# EAGLE library part XC2C64A_VQ100 (library xilinx)
xc2c64a_vq100 edit this description Auto generated by make-symbol-device-package-bsdl.ulp Rev. 29 Source: xc2c64a_vq100.bsd
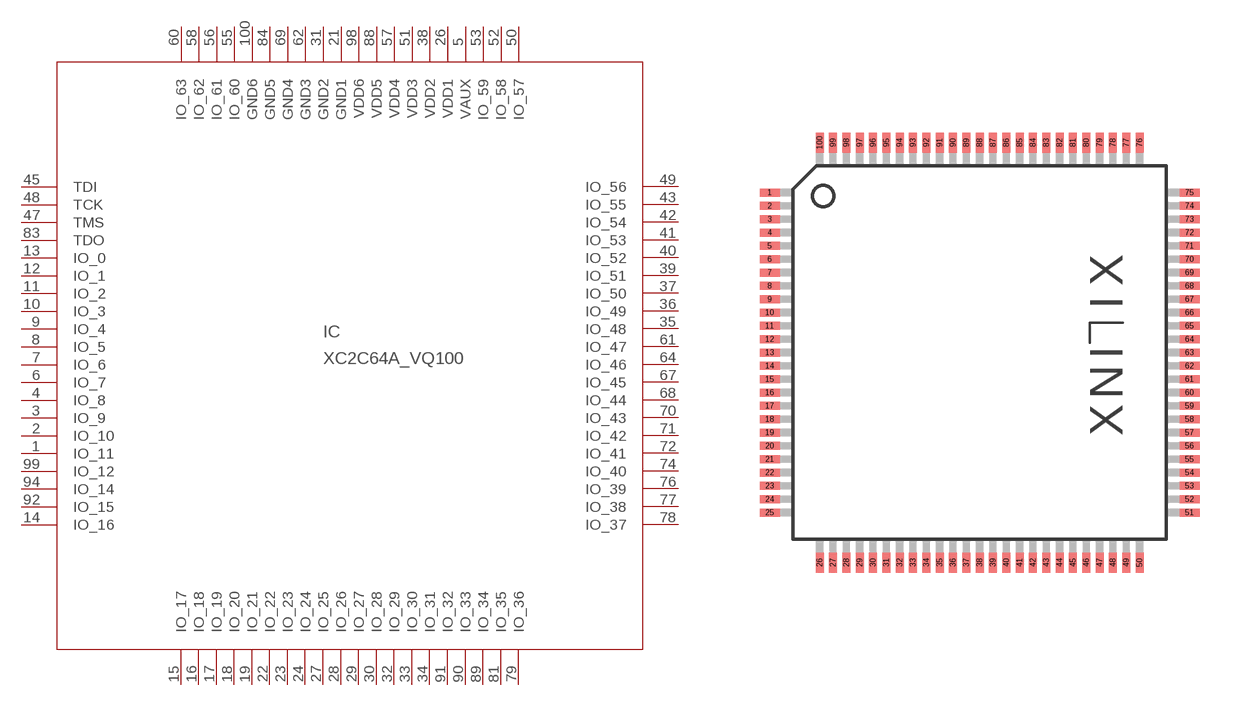
[diagram p1: symbol with the pads of VQ100; footprint VQ100]

Designator prefix IC

## XC2C64A_VQ100  [VQ100]
1  IO_11
2  IO_10
3  IO_9
4  IO_8
5  VAUX  pas
6  IO_7
7  IO_6
8  IO_5
9  IO_4
10  IO_3
11  IO_2
12  IO_1
13  IO_0
14  IO_16
15  IO_17
16  IO_18
17  IO_19
18  IO_20
19  IO_21
21  GND1  pas
22  IO_22
23  IO_23
24  IO_24
26  VDD1  pas
27  IO_25
28  IO_26
29  IO_27
30  IO_28
31  GND2  pas
32  IO_29
33  IO_30
34  IO_31
35  IO_48
36  IO_49
37  IO_50
38  VDD2  pas
39  IO_51
40  IO_52
41  IO_53
42  IO_54
43  IO_55
45  TDI  in
47  TMS  in
48  TCK  in
49  IO_56
50  IO_57
51  VDD3  pas
52  IO_58
53  IO_59
55  IO_60
56  IO_61
57  VDD4  pas
58  IO_62
60  IO_63
61  IO_47
62  GND3  pas
64  IO_46
67  IO_45
68  IO_44
69  GND4  pas
70  IO_43
71  IO_42
72  IO_41
74  IO_40
76  IO_39
77  IO_38
78  IO_37
79  IO_36
81  IO_35
83  TDO  out
84  GND5  pas
88  VDD5  pas
89  IO_34
90  IO_33
91  IO_32
92  IO_15
94  IO_14
98  VDD6  pas
99  IO_12
100  GND6  pas

## Footprint VQ100 (pad centres in mm)
VQ100 Auto generated by make-symbol-device-package-bsdl.ulp Rev. 19
smd 0.75 x 0.3: 1 -7.875,6; 2 -7.875,5.5; 3 -7.875,5; 4 -7.875,4.5; 5 -7.875,4; 6 -7.875,3.5; 7 -7.875,3; 8 -7.875,2.5; 9 -7.875,2; 10 -7.875,1.5; 11 -7.875,1; 12 -7.875,0.5; 13 -7.875,0; 14 -7.875,-0.5; 15 -7.875,-1; 16 -7.875,-1.5; 17 -7.875,-2; 18 -7.875,-2.5; 19 -7.875,-3; 20 -7.875,-3.5; 21 -7.875,-4; 22 -7.875,-4.5; 23 -7.875,-5; 24 -7.875,-5.5; 25 -7.875,-6; 51 7.875,-6; 52 7.875,-5.5; 53 7.875,-5; 54 7.875,-4.5; 55 7.875,-4; 56 7.875,-3.5; 57 7.875,-3; 58 7.875,-2.5; 59 7.875,-2; 60 7.875,-1.5; 61 7.875,-1; 62 7.875,-0.5; 63 7.875,0; 64 7.875,0.5; 65 7.875,1; 66 7.875,1.5; 67 7.875,2; 68 7.875,2.5; 69 7.875,3; 70 7.875,3.5; 71 7.875,4; 72 7.875,4.5; 73 7.875,5; 74 7.875,5.5; 75 7.875,6
smd 0.3 x 0.75: 26 -6,-7.875; 27 -5.5,-7.875; 28 -5,-7.875; 29 -4.5,-7.875; 30 -4,-7.875; 31 -3.5,-7.875; 32 -3,-7.875; 33 -2.5,-7.875; 34 -2,-7.875; 35 -1.5,-7.875; 36 -1,-7.875; 37 -0.5,-7.875; 38 0,-7.875; 39 0.5,-7.875; 40 1,-7.875; 41 1.5,-7.875; 42 2,-7.875; 43 2.5,-7.875; 44 3,-7.875; 45 3.5,-7.875; 46 4,-7.875; 47 4.5,-7.875; 48 5,-7.875; 49 5.5,-7.875; 50 6,-7.875; 76 6,7.875; 77 5.5,7.875; 78 5,7.875; 79 4.5,7.875; 80 4,7.875; 81 3.5,7.875; 82 3,7.875; 83 2.5,7.875; 84 2,7.875; 85 1.5,7.875; 86 1,7.875; 87 0.5,7.875; 88 0,7.875; 89 -0.5,7.875; 90 -1,7.875; 91 -1.5,7.875; 92 -2,7.875; 93 -2.5,7.875; 94 -3,7.875; 95 -3.5,7.875; 96 -4,7.875; 97 -4.5,7.875; 98 -5,7.875; 99 -5.5,7.875; 100 -6,7.875